# Altium schematic symbol library PLS-PLD.SchLib: 10 symbols
Pins are listed as number, name and electrical type; pins without a type are passive.

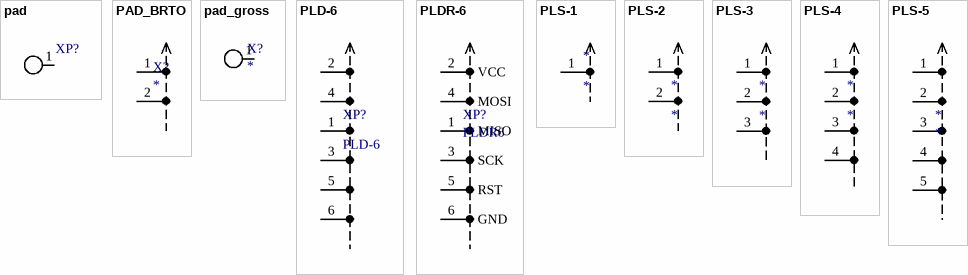
[diagram p0: symbols pad to PLS-5]

## pad
designator XP?  (value not drawn)
footprint Pad
pins: 1

## PAD_BRTO
designator X?
footprint PAD_BRTO
pins: 1, 2

## pad_gross
designator X?
footprint pad_gross
pins: 1

## PLD-6
designator XP?
footprint PLD-6
pins: 1, 2, 3, 4, 5, 6

## PLDR-6
designator XP?, comment PLDR6
footprint PLDR-6
pins: 1 MISO, 2 VCC, 3 SCK, 4 MOSI, 5 RST, 6 GND

## PLS-1
designator *
footprint PLS-1
pins: 1

## PLS-2
designator *
footprint PLS-2
pins: 1, 2

## PLS-3
designator *
footprint PLS-3
pins: 1, 2, 3

## PLS-4
designator *
footprint PLS-4
pins: 1, 2, 3, 4

## PLS-5
designator *
footprint PLS-5
pins: 1, 2, 3, 4, 5